# EAGLE library part MCP6V32 (library Microchip)
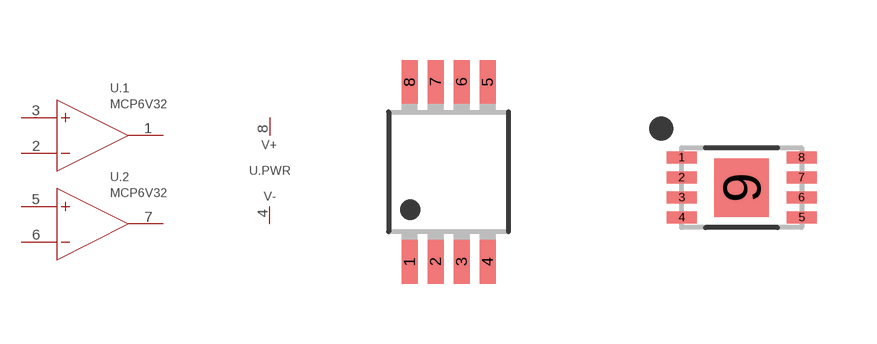
[diagram p31: symbol with the pads of MSOP8; footprints MSOP8, TDFN8]

Designator prefix U; gates .1=OP_AMP .2=OP_AMP .PWR=OP_AMP_PWR

## MCP6V32-E/MS  [MSOP8]
1  .1:OUT  out
2  .1:-IN  in
3  .1:+IN  in
4  .PWR:V-  pwr
5  .2:+IN  in
6  .2:-IN  in
7  .2:OUT  out
8  .PWR:V+  pwr

## MCP6V32-E/MNY  [TDFN8]
1  .1:OUT  out
2  .1:-IN  in
3  .1:+IN  in
4  .PWR:V-  pwr
5  .2:+IN  in
6  .2:-IN  in
7  .2:OUT  out
8  .PWR:V+  pwr
9  .PWR:V-  pwr

## Footprint MSOP8 (pad centres in mm)
smd 0.4 x 1.1: 1 -0.975,-2.25; 2 -0.325,-2.25; 3 0.325,-2.25; 4 0.975,-2.25; 5 0.975,2.25; 6 0.325,2.25; 7 -0.325,2.25; 8 -0.975,2.25

## Footprint TDFN8 (pad centres in mm)
smd 0.75 x 0.3: 1 -1.5,0.75; 2 -1.5,0.25; 3 -1.5,-0.25; 4 -1.5,-0.75; 5 1.5,-0.75; 6 1.5,-0.25; 7 1.5,0.25; 8 1.5,0.75
smd 1.36 x 1.46: 9 0,0